# Altium integrated library WL-SMRW SMD chip LED reverse mount mono-color waterclear.IntLib: 8 symbols
Pins are listed as number, name and electrical type; pins without a type are passive.

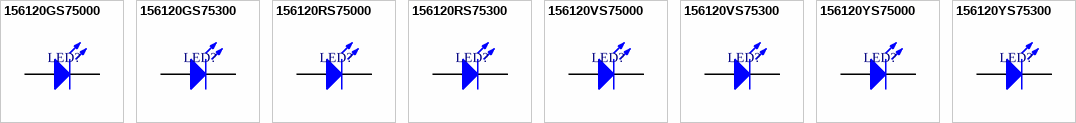
[diagram p0: symbols 156120GS75000 to 156120YS75300]

## 156120GS75000
designator LED?
SMD mono-color reverse mount waterclear Chip LED, WL-SMRW, Green; PartNumber: 156120GS75000; Lens Type: Rectangular; PackageReference: 1206  RECTANGULAR-REVERSE USE; Color: Green; ComponentLink1Description: Manufacturer URL; ComponentLink1URL: http://www.we-online.com; ComponentLink2Description: Datasheet; ComponentLink2URL: http://katalog.we-online.com/led/datasheet/156120GS75000.pdf
footprint 1206  RECTANGULAR-REVERSE USE (Chip LED, 2-Leads, Body 3.2x1.6mm, IPC Medium Density)
pins: 1 K, 2 A

## 156120GS75300
designator LED?
SMD mono-color reverse mount waterclear Chip LED, WL-SMRW, Green; PartNumber: 156120GS75300; Lens Type: Cylindrical; PackageReference: 1206  CYLINDRICAL- Reverse Use; Color: Green; ComponentLink1Description: Manufacturer URL; ComponentLink1URL: http://www.we-online.com; ComponentLink2Description: Datasheet; ComponentLink2URL: http://katalog.we-online.com/led/datasheet/156120GS75300.pdf
footprint 1206  CYLINDRICAL- Reverse Use (Chip LED, 2-Leads, Body 3.2x1.6mm, IPC Medium Density)
pins: 1 K, 2 A

## 156120RS75000
designator LED?
SMD mono-color reverse mount waterclear Chip LED, WL-SMRW, Red; PartNumber: 156120RS75000; Lens Type: Rectangular; PackageReference: 1206  RECTANGULAR-REVERSE USE; Color: Red; ComponentLink1Description: Manufacturer URL; ComponentLink1URL: http://www.we-online.com; ComponentLink2Description: Datasheet; ComponentLink2URL: http://katalog.we-online.com/led/datasheet/156120RS75000.pdf
footprint 1206  RECTANGULAR-REVERSE USE (Chip LED, 2-Leads, Body 3.2x1.6mm, IPC Medium Density)
pins: 1 K, 2 A

## 156120RS75300
designator LED?
SMD mono-color reverse mount waterclear Chip LED, WL-SMRW, Red; PartNumber: 156120RS75300; Lens Type: Cylindrical; PackageReference: 1206  CYLINDRICAL- Reverse Use; Color: Red; ComponentLink1Description: Manufacturer URL; ComponentLink1URL: http://www.we-online.com; ComponentLink2Description: Datasheet; ComponentLink2URL: http://katalog.we-online.com/led/datasheet/156120RS75300.pdf
footprint 1206  CYLINDRICAL- Reverse Use (Chip LED, 2-Leads, Body 3.2x1.6mm, IPC Medium Density)
pins: 1 K, 2 A

## 156120VS75000
designator LED?
SMD mono-color reverse mount waterclear Chip LED, WL-SMRW, Bright Green; PartNumber: 156120VS75000; Lens Type: Rectangular; PackageReference: 1206  RECTANGULAR-REVERSE USE; Color: Bright Green; ComponentLink1Description: Manufacturer URL; ComponentLink1URL: http://www.we-online.com; ComponentLink2Description: Datasheet; ComponentLink2URL: http://katalog.we-online.com/led/datasheet/156120VS75000.pdf
footprint 1206  RECTANGULAR-REVERSE USE (Chip LED, 2-Leads, Body 3.2x1.6mm, IPC Medium Density)
pins: 1 K, 2 A

## 156120VS75300
designator LED?
SMD mono-color reverse mount waterclear Chip LED, WL-SMRW, Bright Green; PartNumber: 156120VS75300; Lens Type: Cylindrical; PackageReference: 1206  CYLINDRICAL- Reverse Use; Color: Bright Green; ComponentLink1Description: Manufacturer URL; ComponentLink1URL: http://www.we-online.com; ComponentLink2Description: Datasheet; ComponentLink2URL: http://katalog.we-online.com/led/datasheet/156120VS75300.pdf
footprint 1206  CYLINDRICAL- Reverse Use (Chip LED, 2-Leads, Body 3.2x1.6mm, IPC Medium Density)
pins: 1 K, 2 A

## 156120YS75000
designator LED?
SMD mono-color reverse mount waterclear Chip LED, WL-SMRW, Yellow; PartNumber: 156120YS75000; Lens Type: Rectangular; PackageReference: 1206  RECTANGULAR-REVERSE USE; Color: Yellow; ComponentLink1Description: Manufacturer URL; ComponentLink1URL: http://www.we-online.com; ComponentLink2Description: Datasheet; ComponentLink2URL: http://katalog.we-online.com/led/datasheet/156120YS75000.pdf
footprint 1206  RECTANGULAR-REVERSE USE (Chip LED, 2-Leads, Body 3.2x1.6mm, IPC Medium Density)
pins: 1 K, 2 A

## 156120YS75300
designator LED?
SMD mono-color reverse mount waterclear Chip LED, WL-SMRW, Yellow; PartNumber: 156120YS75300; Lens Type: Cylindrical; PackageReference: 1206  CYLINDRICAL- Reverse Use; Color: Yellow; ComponentLink1Description: Manufacturer URL; ComponentLink1URL: http://www.we-online.com; ComponentLink2Description: Datasheet; ComponentLink2URL: http://katalog.we-online.com/led/datasheet/156120YS75300.pdf
footprint 1206  CYLINDRICAL- Reverse Use (Chip LED, 2-Leads, Body 3.2x1.6mm, IPC Medium Density)
pins: 1 K, 2 A